# Altium schematic symbol library 4-1437565-9.SchLib: 1 symbol
Pins are listed as number, name and electrical type; pins without a type are passive.

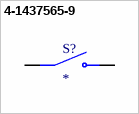
[diagram p0: symbol 4-1437565-9]

## 4-1437565-9
designator S?
MP: 4-1437565-9; MF: {'manufacturer': u'TE Connectivity'}; Price: None; Package: None; Availability: Unavailable; Value: *
footprint SW_4-1437565-9
pins: 1 COM, 2 COM, 3 NO, 4 NO